# EAGLE library part MCP3427 (library Bauteile)
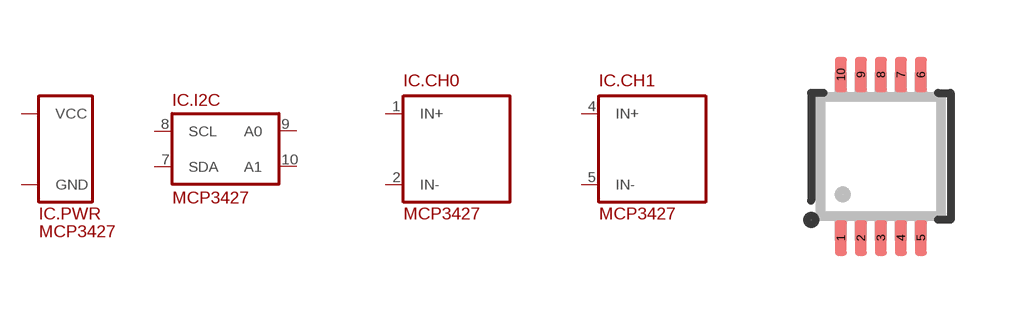
[diagram p173: symbol with the pads of MSOP10; footprint MSOP10]

Designator prefix IC; gates .PWR=SUPPLY_VCC/GND .I2C=I2C_DEVICE_2ADDRBITS .CH0=ADC_CHANNEL .CH1=ADC_CHANNEL

## MCP3427  [MSOP10]
1  .CH0:IN+
2  .CH0:IN-
3  .PWR:GND
4  .CH1:IN+
5  .CH1:IN-
6  .PWR:VCC
7  .I2C:SDA
8  .I2C:SCL
9  .I2C:A0
10  .I2C:A1

## Footprint MSOP10 (pad centres in mm)
smd 0.305 x 0.889: 1 -1,-2.045; 2 -0.5,-2.045; 3 0,-2.045; 4 0.5,-2.045; 5 1,-2.045; 6 1,2.045; 7 0.5,2.045; 8 0,2.045; 9 -0.5,2.045; 10 -1,2.045